# EAGLE library part INA219 (library slothbot_parts)
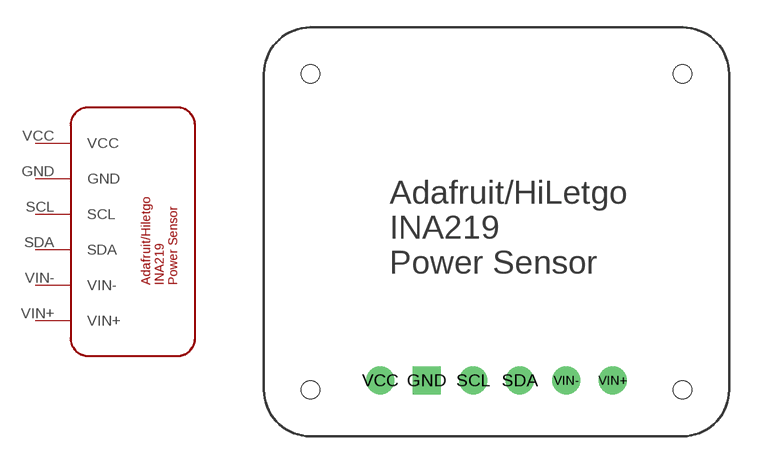
[diagram p3: symbol with the pads of INA219; footprint INA219]

Designator prefix -

## INA219  [INA219]
GND  GND
SCL  SCL
SDA  SDA
VCC  VCC
VIN+  VIN+
VIN-  VIN-

## Footprint INA219 (pad centres in mm)
drill 1.016 square: GND -3.81,-17.272
drill 1.016: SCL -1.27,-17.272; SDA 1.27,-17.272; VCC -6.35,-17.272; VIN+ 6.35,-17.272; VIN- 3.81,-17.272
hole 1 at -10.16,-17.78
hole 1 at 10.16,-0.508
hole 1 at -10.16,-0.508
hole 1 at 10.16,-17.78